# Altium schematic symbol library ANT_IFA_2_4GHZ_50R.SchLib: 2 symbols
Pins are listed as number, name and electrical type; pins without a type are passive.

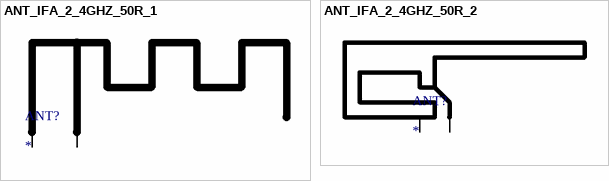
[diagram p0: symbols ANT_IFA_2_4GHZ_50R_1 to ANT_IFA_2_4GHZ_50R_2]

## ANT_IFA_2_4GHZ_50R_1
designator ANT?  (net tie, no BOM)
footprint PCB_ANT_1
pins: ANT, GND

## ANT_IFA_2_4GHZ_50R_2
designator ANT?  (net tie, no BOM)
footprint PCB_ANT_2
pins: ANT, GND